# Altium schematic symbol library EPD.SchLib: 1 symbol
Pins are listed as number, name and electrical type; pins without a type are passive.

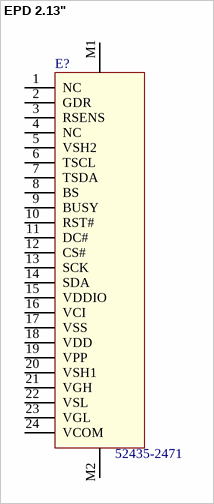
[diagram p0: symbol EPD 2.13"]

## EPD 2.13"
designator E?  value 52435-2471  (hidden comment: *)
Connecteur FFC/FPC, Right-Angle, Surface Mount, ZIF, Top Contact / Style, 24 Circuits; Fabricant: MOLEX; Référence: 52435-2471; epd reference: MIKROE-3158
footprint 52435-2471
pins: 1 NC (power), 2 GDR (power), 3 RSENS (power), 4 NC (power), 5 VSH2 (power), 6 TSCL (power), 7 TSDA (power), 8 BS (power), 9 BUSY (power), 10 RST# (power), 11 DC# (power), 12 CS# (power), 13 SCK (power), 14 SDA (power), 15 VDDIO (power), 16 VCI (power), 17 VSS (power), 18 VDD (power), 19 VPP (power), 20 VSH1 (power), 21 VGH (power), 22 VSL (power), 23 VGL (power), 24 VCOM (power), M1 (power), M2 (power)